# Altium footprint library RC2010JK-070RL.PcbLib: 3 footprints
Each footprint in its own frame and in the unit in brackets; x right, y up, seen from the top. Pads: shape width x height; smd on the part's side, far side on the other; paste and mask are expansions set on the pad; w line width, h text height; cw(c..) or ccw(c..) is an arc to the next point about the centre after c.
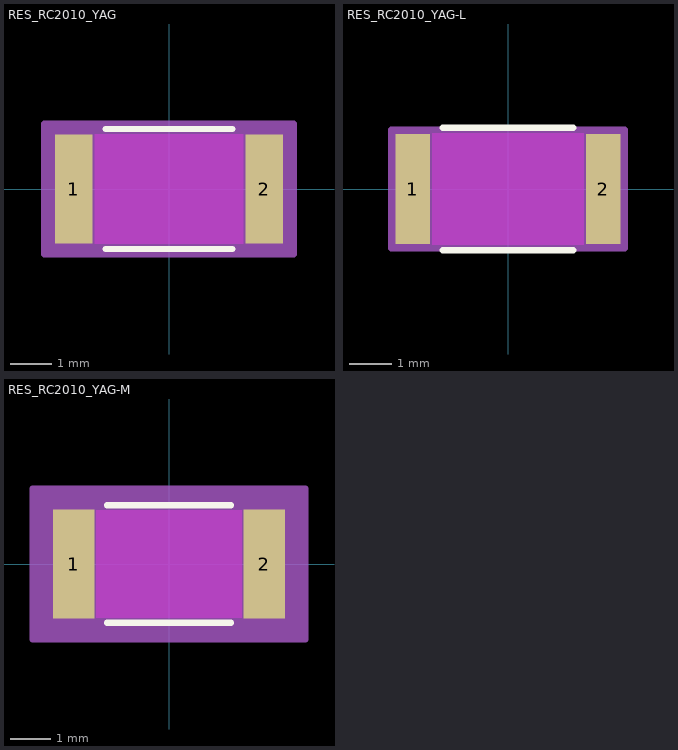
[diagram p0: the footprints below, top view; thin cyan lines are the x and y axes]

## RES_RC2010_YAG [mil]
pads (2):
  rect 36x104 smd paste+0 mask+0: 1(-90.5,0) 2(90.5,0)
Top Layer keep-out:
  region: -70.5,-50 -70.5,50 70.5,50 70.5,-50
Top Overlay:
  lines w6: -60.39,-57 60.39,-57 ; -60.39,57 60.39,57
  text ".Designator" at -137.5,-25 h50
Keep-Out Layer:
  region: -70.5,-52 -70.5,52 70.5,52 70.5,-52
Mechanical 13:
  lines w1: -100.5,-52 -100.5,52 ; -100.5,-52 -72.5,-52 -72.5,52 -100.5,52 ; -100.5,-52 100.5,-52 ; -100.5,-52 -100.5,52 ; -100.5,52 100.5,52 ; 100.5,-52 72.5,-52 72.5,52 100.5,52 ; 100.5,-52 100.5,52 ; 100.5,-52 100.5,52
  text ".Designator" at -137.5,-25 h50
Mechanical 15:
  region: 118.5,-62 -118.5,-62 -118.5,62 118.5,62
  lines w6: -118.5,-62 -118.5,62 118.5,62 118.5,-62 -118.5,-62
3D body "RES_RC2010_YAG.step": height 25.98, standoff 0, extent -100.51,-52.01 100.51,52.01

## RES_RC2010_YAG-L [mil]
pads (2):
  rect 32x102 smd paste+0 mask+0: 1(-88.5,0) 2(88.5,0)
Top Layer keep-out:
  region: -70.5,-50 -70.5,50 70.5,50 70.5,-50
Top Overlay:
  lines w6: -60.85,-57 60.85,-57 ; -60.85,57 60.85,57
  text ".Designator" at -137.5,-25 h50
Keep-Out Layer:
  region: -70.5,-52 -70.5,52 70.5,52 70.5,-52
Mechanical 13:
  lines w1: -100.5,-52 -100.5,52 ; -100.5,-52 -72.5,-52 -72.5,52 -100.5,52 ; -100.5,-52 100.5,-52 ; -100.5,-52 -100.5,52 ; -100.5,52 100.5,52 ; 100.5,-52 72.5,-52 72.5,52 100.5,52 ; 100.5,-52 100.5,52 ; 100.5,-52 100.5,52
  text ".Designator" at -137.5,-25 h50
Mechanical 15:
  region: 108.5,-55 -108.5,-55 -108.5,55 108.5,55
  lines w6: -108.5,-55 -108.5,55 108.5,55 108.5,-55 -108.5,-55
3D body "RES_RC2010_YAG.step": height 25.98, standoff 0, extent -100.51,-52.01 100.51,52.01

## RES_RC2010_YAG-M [mil]
pads (2):
  rect 40x106 smd paste+0 mask+0: 1(-92.5,0) 2(92.5,0)
Top Layer keep-out:
  region: -70.5,-50 -70.5,50 70.5,50 70.5,-50
Top Overlay:
  lines w6: -60.03,-57 60.03,-57 ; -60.03,57 60.03,57
  text ".Designator" at -137.5,-25 h50
Keep-Out Layer:
  region: -70.5,-52 -70.5,52 70.5,52 70.5,-52
Mechanical 13:
  lines w1: -100.5,-52 -100.5,52 ; -100.5,-52 -72.5,-52 -72.5,52 -100.5,52 ; -100.5,-52 100.5,-52 ; -100.5,-52 -100.5,52 ; -100.5,52 100.5,52 ; 100.5,-52 72.5,-52 72.5,52 100.5,52 ; 100.5,-52 100.5,52 ; 100.5,-52 100.5,52
  text ".Designator" at -137.5,-25 h50
Mechanical 15:
  region: 132.5,-73 -132.5,-73 -132.5,73 132.5,73
  lines w6: -132.5,-73 -132.5,73 132.5,73 132.5,-73 -132.5,-73
3D body "RES_RC2010_YAG.step": height 25.98, standoff 0, extent -100.51,-52.01 100.51,52.01